# Altium footprint library PCB_LA150C_RDIVER_V1.00.PcbLib: 32 footprints (part 1 of 2)
Each footprint in its own frame and in the unit in brackets; x right, y up, seen from the top. Pads: shape width x height; smd on the part's side, far side on the other; paste and mask are expansions set on the pad; w line width, h text height; cw(c..) or ccw(c..) is an arc to the next point about the centre after c.
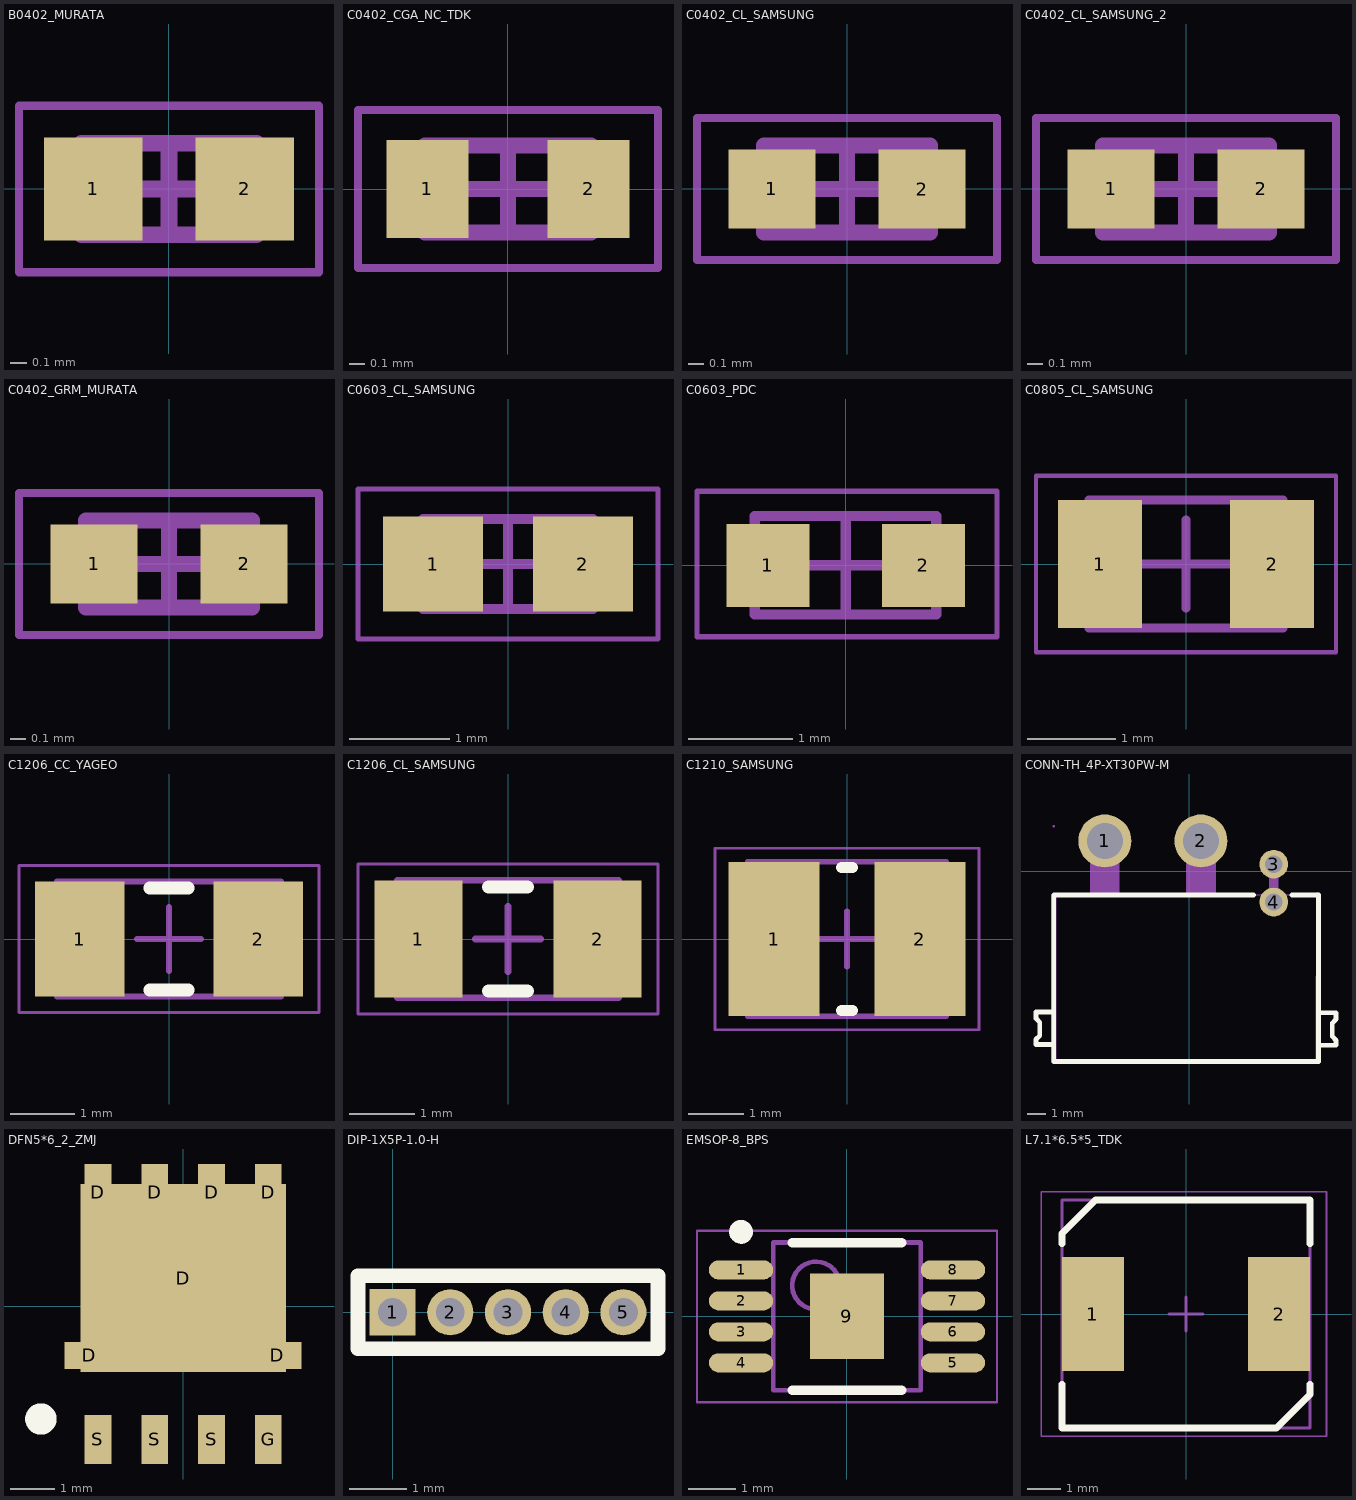
[diagram p0: the footprints below, top view; thin cyan lines are the x and y axes]

## B0402_MURATA [mm] "Chip Inductor, 2-Leads, Body 1.00x0.50mm, IPC Medium Density"
height 0.55
pads (2):
  rect 0.59x0.62 smd mask+0.06: 1(-0.455,0) 2(0.455,0)
Mechanical 13:
  lines w0.1: -0.525,-0.275 0.525,-0.275 0.525,0.275 -0.525,0.275 -0.525,-0.275
Mechanical 15:
  lines w0.05: -0.9,-0.5 0.9,-0.5 0.9,0.5 -0.9,0.5 -0.9,-0.5
  lines w0.1: -0.275,0 0.275,0 ; 0,-0.275 0,0.275
3D body "INDC1005X06N.step": height 0.55, standoff 0, extent -0.525,-0.275 0.525,0.275

## C0402_CGA_NC_TDK [mm]
height 0.55
pads (2):
  rect 0.52x0.62 smd mask+0.08: 1(-0.51,0) 2(0.51,0)
Mechanical 13:
  lines w0.1: -0.525,-0.275 -0.525,0.275 0.525,0.275 0.525,-0.275 -0.525,-0.275
Mechanical 15:
  lines w0.05: -0.95,-0.5 0.95,-0.5 0.95,0.5 -0.95,0.5 -0.95,-0.5
  lines w0.1: -0.275,0 0.275,0 ; 0,-0.275 0,0.275

## C0402_CL_SAMSUNG [mm] "Chip Capacitor, 2-Leads, Body 1.00x0.50mm, IPC Medium Density"
height 0.55
pads (2):
  rect 0.55x0.5 smd mask+0.08: 1(-0.475,0) 2(0.475,0)
Mechanical 13:
  lines w0.1: -0.525,-0.275 0.525,-0.275 0.525,0.275 -0.525,0.275 -0.525,-0.275
Mechanical 15:
  lines w0.05: -0.95,-0.45 0.95,-0.45 0.95,0.45 -0.95,0.45 -0.95,-0.45
  lines w0.1: -0.275,0 0.275,0 ; 0,-0.275 0,0.275
3D body "CAPC1005X06N.step": height 0.55, standoff 0, extent -0.525,-0.275 0.525,0.275

## C0402_CL_SAMSUNG_2 [mm]
pads (2):
  rect 0.55x0.5 smd mask+0.08: 1(-0.475,0) 2(0.475,0)
Mechanical 13:
  lines w0.1: -0.525,-0.275 0.525,-0.275 0.525,0.275 -0.525,0.275 -0.525,-0.275
Mechanical 15:
  lines w0.05: -0.95,-0.45 0.95,-0.45 0.95,0.45 -0.95,0.45 -0.95,-0.45
  lines w0.1: -0.275,0 0.275,0 ; 0,-0.275 0,0.275
3D body "CAPC1005X06N.step": height 0.55, standoff 0, extent -0.525,-0.275 0.525,0.275

## C0402_GRM_MURATA [mm] "Chip Capacitor, 2-Leads, Body 1.00x0.50mm, IPC Medium Density"
height 0.55
pads (2):
  rect 0.55x0.5 smd mask+0.08: 1(-0.475,0) 2(0.475,0)
Mechanical 13:
  lines w0.1: -0.525,-0.275 0.525,-0.275 0.525,0.275 -0.525,0.275 -0.525,-0.275
Mechanical 15:
  lines w0.05: -0.95,-0.45 0.95,-0.45 0.95,0.45 -0.95,0.45 -0.95,-0.45
  lines w0.1: -0.275,0 0.275,0 ; 0,-0.275 0,0.275
3D body "CAPC1005X06N.step": height 0.55, standoff 0, extent -0.525,-0.275 0.525,0.275

## C0603_CL_SAMSUNG [mm] "Chip Capacitor, 2-Leads, Body 1.60x0.80mm, IPC Medium Density"
height 0.9
pads (2):
  rect 1x0.95 smd: 1(-0.75,0) 2(0.75,0)
Mechanical 13:
  lines w0.1: -0.85,-0.45 0.85,-0.45 0.85,0.45 -0.85,0.45 -0.85,-0.45
Mechanical 15:
  lines w0.05: -1.5,-0.75 1.5,-0.75 1.5,0.75 -1.5,0.75 -1.5,-0.75
  lines w0.1: -0.45,0 0.45,0 ; 0,-0.45 0,0.45
3D body "CAPC1608X09N.step": height 0.9, standoff 0, extent -0.85,-0.45 0.85,0.45

## C0603_PDC [mm] "Chip Capacitor, 2-Leads, Body 1.60x0.80mm, IPC Medium Density"
height 0.95
pads (2):
  rect 0.8x0.8 smd: 1(-0.75,0) 2(0.75,0)
Mechanical 13:
  lines w0.1: -0.875,-0.475 0.875,-0.475 0.875,0.475 -0.875,0.475 -0.875,-0.475
Mechanical 15:
  lines w0.05: -1.433,-0.688 1.46,-0.688 1.46,0.713 -1.433,0.713 -1.433,-0.688
  lines w0.1: -0.475,0 0.475,0 ; 0,-0.475 0,0.475
3D body "CAPC1608X10N.step": height 0.95, standoff 0, extent -0.875,-0.475 0.875,0.475

## C0805_CL_SAMSUNG [mm] "Chip Capacitor, 2-Leads, Body 2.00x1.25mm, IPC Medium Density"
height 1.45
pads (2):
  rect 0.95x1.45 smd: 1(-0.975,0) 2(0.975,0)
Mechanical 13:
  lines w0.1: -1.1,-0.725 -1.1,0.725 1.1,0.725 1.1,-0.725 -1.1,-0.725
Mechanical 15:
  lines w0.05: -1.7,-1 -1.7,1 1.7,1 1.7,-1 -1.7,-1
  lines w0.1: -0.5,0 0.5,0 ; 0,-0.5 0,0.5
3D body "CAPC2012X14N.step": height 1.45, standoff 0, extent -1.1,-0.725 1.1,0.725

## C1206_CC_YAGEO [mm] "Chip Capacitor, 2-Leads, Body 3.20x1.60mm, IPC Medium Density"
height 1.9
pads (2):
  rect 1.4x1.8 smd: 1(-1.4,0) 2(1.4,0)
Top Overlay:
  lines w0.2: -0.3,-0.8 0.3,-0.8 ; -0.3,0.8 0.3,0.8
Mechanical 13:
  lines w0.1: -1.75,-0.9 1.75,-0.9 1.75,0.9 -1.75,0.9 -1.75,-0.9
Mechanical 15:
  lines w0.05: -2.35,-1.15 2.35,-1.15 2.35,1.15 -2.35,1.15 -2.35,-1.15
  lines w0.1: -0.5,0 0.5,0 ; 0,-0.5 0,0.5
3D body "CAPC3216X19N.step": height 1.9, standoff 0, extent -1.75,-0.9 1.75,0.9

## C1206_CL_SAMSUNG [mm] "Chip Capacitor, 2-Leads, Body 3.20x1.60mm, IPC Medium Density"
height 1.8
pads (2):
  rect 1.35x1.8 smd: 1(-1.375,0) 2(1.375,0)
Top Overlay:
  lines w0.2: -0.3,-0.8 0.3,-0.8 ; -0.3,0.8 0.3,0.8
Mechanical 13:
  lines w0.1: -1.7,-0.9 1.7,-0.9 1.7,0.9 -1.7,0.9 -1.7,-0.9
Mechanical 15:
  lines w0.05: -2.3,-1.15 2.3,-1.15 2.3,1.15 -2.3,1.15 -2.3,-1.15
  lines w0.1: -0.5,0 0.5,0 ; 0,-0.5 0,0.5
3D body "CAPC3216X18N.step": height 1.8, standoff 0, extent -1.7,-0.9 1.7,0.9

## C1210_SAMSUNG [mm] "Chip Capacitor, 2-Leads, Body 3.20x2.50mm, IPC Medium Density"
height 2.8
pads (2):
  rect 1.65x2.8 smd: 1(-1.325,0) 2(1.325,0)
Top Overlay:
  lines w0.2: -0.1,-1.3 0.1,-1.3 ; -0.1,1.3 0.1,1.3
Mechanical 13:
  lines w0.1: -1.8,-1.4 1.8,-1.4 1.8,1.4 -1.8,1.4 -1.8,-1.4
Mechanical 15:
  lines w0.05: -2.4,-1.65 2.4,-1.65 2.4,1.65 -2.4,1.65 -2.4,-1.65
  lines w0.1: -0.5,0 0.5,0 ; 0,-0.5 0,0.5
3D body "CAPC3225X28N.step": height 2.8, standoff 0, extent -1.8,-1.4 1.8,1.4

## CONN-TH_4P-XT30PW-M [mil]
height 47.24
pads (4):
  round 110.24 hole 74.8 paste+0 mask+1.97: 1(-175.78,63.59) 2(24.21,63.59)
  round 60 hole 36 paste+0 mask+1.97: 3(175.79,15.16) 4(175.79,-63.58)
Top Overlay:
  lines w10: -282.13,-48.62 -282.13,-395.12 269.07,-395.12 269.07,-48.62 213.06,-48.62 ; -282.08,-359.84 -318.89,-359.84 -318.89,-349.21 -311.02,-341.34 -311.02,-334.84 -311.02,-313.58 -318.89,-305.71 -318.89,-292.07 -282.08,-292.07 ; -281.69,-48.62 103.88,-48.62 133.4,-48.62 ; 268.51,-361.67 305.32,-361.67 305.32,-351.04 297.44,-343.16 297.44,-336.67 297.44,-315.41 305.32,-307.53 305.32,-293.89 268.51,-293.89
Mechanical 6:
  region: -287,-48.03 -287,-396.45 -283.86,-399.6 270.87,-399.6 274.02,-396.45 274.02,-47.24 270.48,-43.7 264.57,-43.7 262.99,-390.15 -277.16,-390.15 -277.16,-43.7
Mechanical 7:
  lines w2: -282.08,-395.06 269.1,-395.06 269.1,-48.6 -282.08,-48.6 -282.08,-395.06
Mechanical 8:
  region: -279.72,94.11 -279.72,93.13 -281.1,91.74 -283.06,91.74 -284.44,93.13 -284.44,94.11 -284.44,95.08 -283.06,96.47 -281.1,96.47 -279.72,95.08 -279.72,94.11
Mechanical 9:
  region: 185.63,25 165.95,25 165.95,5.32 185.63,5.32
  region: 185.63,-53.74 165.95,-53.74 165.95,-73.42 185.63,-73.42
  region: 54.73,63.59 54.73,59.57 52.65,51.81 48.63,44.85 42.95,39.17 35.99,35.15 28.23,33.07 20.19,33.07 12.43,35.15 5.47,39.17 -0.21,44.85 -4.23,51.81 -6.3,59.57 -6.3,63.59 -6.3,67.6 -4.23,75.36 -0.21,82.32 5.47,88 12.43,92.02 20.19,94.1 28.23,94.1 35.99,92.02 42.95,88 48.63,82.32 52.65,75.36 54.73,67.6 54.73,63.59
  region: -145.27,63.59 -145.27,59.57 -147.35,51.81 -151.37,44.85 -157.05,39.17 -164.01,35.15 -171.77,33.07 -179.81,33.07 -187.57,35.15 -194.53,39.17 -200.21,44.85 -204.23,51.81 -206.31,59.57 -206.31,63.59 -206.31,67.6 -204.23,75.36 -200.21,82.32 -194.53,88 -187.57,92.02 -179.81,94.1 -171.77,94.1 -164.01,92.02 -157.05,88 -151.37,82.32 -147.35,75.36 -145.27,67.6 -145.27,63.59
Mechanical 10:
  region: 165.95,25 185.63,25 185.63,-52.16 165.95,-52.16
  region: -6.29,94.09 54.73,94.1 54.73,-48.82 -6.29,-48.82
  region: -206.3,94.1 -145.27,94.1 -145.27,-48.82 -206.3,-48.82
3D body "CONN-TH_4P-XT30PW-M.step": height 204.72, standoff -77.57, extent -305.12,-396.65 305.12,96.65

## DFN5*6_2_ZMJ [mm]
height 1.1
pads (11):
  rect 1.1x0.6 smd: D(-2.1,-1.096) D(2.1,-1.096)
  rect 0.6x1.27 smd: D(-1.905,2.55) D(-0.635,2.55) D(0.635,2.55) D(1.905,2.55)
  rect 4.6x4.2 smd: D(0,0.635)
  rect 0.6x1.1 smd: G(1.905,-2.975) S(-1.905,-2.975) S(-0.635,-2.975) S(0.635,-2.975)
Top Overlay:
  circle w0.5: c-3.182,-2.518 r0.1
3D body "ZMSA022N04HNCZMSA032N04HNC13.STEP": height 1.13, standoff -0.01, extent -2.569,-3.195 2.569,2.855

## DIP-1X5P-1.0-H [mm]
height 0.01
pads (5):
  rect 0.8x0.8 hole 0.5: 1(0,0)
  round 0.8 hole 0.5: 2(1,0) 3(2,0) 4(3,0) 5(4,0)
Top Overlay:
  lines w0.254: -0.6,-0.635 -0.6,0.635 4.6,0.635 4.6,-0.635 -0.6,-0.635
Mechanical 15:
  region: 3.85,0.15 4.15,0.15 4.15,-0.15 3.85,-0.15
  region: 2.85,0.15 3.15,0.15 3.15,-0.15 2.85,-0.15
  region: 1.85,0.15 2.15,0.15 2.15,-0.15 1.85,-0.15
  region: 0.85,0.15 1.15,0.15 1.15,-0.15 0.85,-0.15
  region: -0.15,0.15 0.15,0.15 0.15,-0.15 -0.15,-0.15
  region: -0.5,-0.575 -0.525,-0.575 -0.56,-0.61 -0.56,-0.66 -0.525,-0.695 -0.5,-0.695 -0.475,-0.695 -0.44,-0.66 -0.44,-0.61 -0.475,-0.575 -0.5,-0.575
  lines w0.051: -0.5,-0.635 4.5,-0.635 4.5,0.635 -0.5,0.635 -0.5,-0.635

## EMSOP-8_BPS [mm] "TSOP, 8-Leads, Body 3.00x3.00mm, Pitch 0.65mm, Thermal Pad 1.80x1.55mm, IPC Medium Density"
height 1
pads (9):
  oval 1.35x0.4 smd mask+0.06: 1(-2.225,0.975) 2(-2.225,0.325) 3(-2.225,-0.325) 4(-2.225,-0.975) 5(2.225,-0.975) 6(2.225,-0.325) 7(2.225,0.325) 8(2.225,0.975)
  rect 1.55x1.8 smd mask+0.06: 9(0,0)
Top Overlay:
  circle w0.25: c-2.225,1.775 r0.125
  lines w0.2: -1.15,-1.55 1.15,-1.55 ; -1.15,1.55 1.15,1.55
Mechanical 13:
  circle w0.1: c-0.65,0.65 r0.5
  lines w0.1: -1.55,-1.55 -1.55,1.55 1.55,1.55 1.55,-1.55 -1.55,-1.55
Mechanical 15:
  lines w0.05: -3.15,-1.8 -3.15,1.8 3.15,1.8 3.15,-1.8 -3.15,-1.8
  lines w0.1: -0.5,0 0.5,0 ; 0,-0.5 0,0.5
3D body "TSOP65P490X100_HS-9N.step": height 1, standoff 0, extent -2.45,-1.55 2.45,1.55

## L7.1*6.5*5_TDK [mm] "Precision Wire Wound Inductor, 2-Leads, Body 7.10x6.50mm, IPC Medium Density"
height 5
pads (2):
  rect 1.85x3.4 smd: 1(-2.775,0) 2(2.775,0)
Top Overlay:
  lines w0.2: -3.7,-2.1 -3.7,-3.4 2.7,-3.4 3.7,-2.4 3.7,-2.1 ; -3.7,2.1 -3.7,2.4 -2.7,3.4 3.7,3.4 3.7,2.1
Mechanical 13:
  lines w0.1: -3.7,-3.4 -3.7,3.4 3.7,3.4 3.7,-3.4 -3.7,-3.4
Mechanical 15:
  lines w0.05: -4.318,-3.65 -4.318,3.65 4.191,3.65 4.191,-3.65 -4.318,-3.65
  lines w0.1: -0.5,0 0.5,0 ; 0,-0.5 0,0.5
3D body "SPM6550-HZ.step": height 5, standoff 0, extent -3.55,-3.25 3.55,3.25